# Altium schematic symbol library POWER_SUPPLY.SchLib: 4 symbols
Pins are listed as number, name and electrical type; pins without a type are passive.

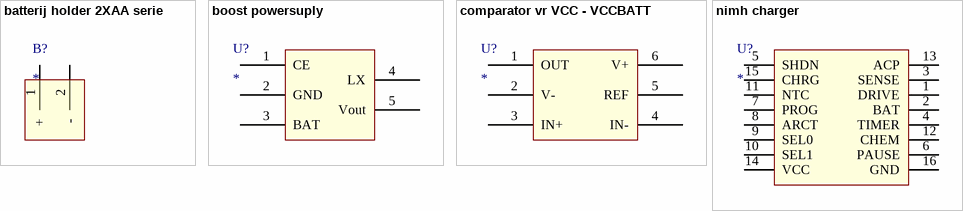
[diagram p0: symbols batterij holder 2XAA serie to nimh charger]

## batterij holder 2XAA serie
designator B?
BC12AAPC
footprint batterij holder 2XAA serie (BC12AAPC)
pins: 1 +, 2 -

## boost powersuply
designator U?
XC9142B50DMR-G; type: *
footprint boost powersupply (XC9142B50DMR-G)
pins: 1 CE, 2 GND, 3 BAT, 4 LX, 5 Vout

## comparator vr VCC - VCCBATT
designator U?
TLV3011AIDCKT; type: *
footprint comparator VCC - VCCBATT (TLV3011AIDCKT)
pins: 1 OUT, 2 V- (power), 3 IN+ (power), 4 IN-, 5 REF, 6 V+

## nimh charger
designator U?
1-4 cell, LTC4060; type: *
footprint BATTERIJ CHARGERS (DS2712ZB+)
pins: 1 DRIVE, 2 BAT, 3 SENSE, 4 TIMER, 5 SHDN, 6 PAUSE, 7 PROG, 8 ARCT, 9 SEL0, 10 SEL1, 11 NTC, 12 CHEM, 13 ACP, 14 VCC, 15 CHRG, 16 GND